# EAGLE library part MCP1725 (library 4534_I2C2)
500 mA, Low Voltage, Low Quiescent Current LDO Regulator
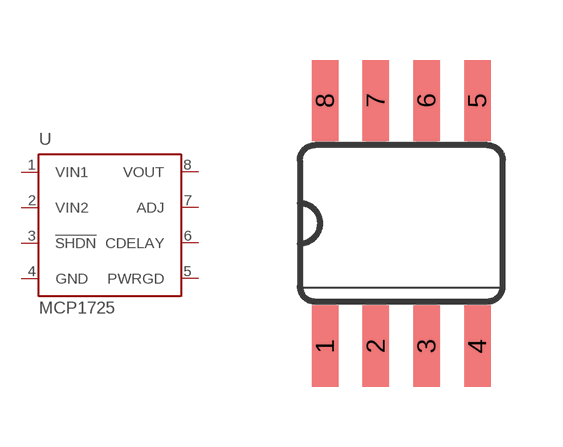
[diagram p5: symbol with the pads of SO08; footprint SO08]

Designator prefix -

## MCP1725-ADJ  [SO08]
1  VIN1  pwr
2  VIN2  pwr
3  !SHDN  in
4  GND  pwr
5  PWRGD  out
6  CDELAY  in
7  ADJ  in
8  VOUT  pwr

## Footprint SO08 (pad centres in mm)
Small Outline Package SOIC 150 mil
smd 0.66 x 2.032: 1 -1.905,-3.073; 2 -0.635,-3.073; 3 0.635,-3.073; 4 1.905,-3.073; 5 1.905,3.073; 6 0.635,3.073; 7 -0.635,3.073; 8 -1.905,3.073